# Altium integrated library RP2350.IntLib: 1 symbol
Pins are listed as number, name and electrical type; pins without a type are passive.

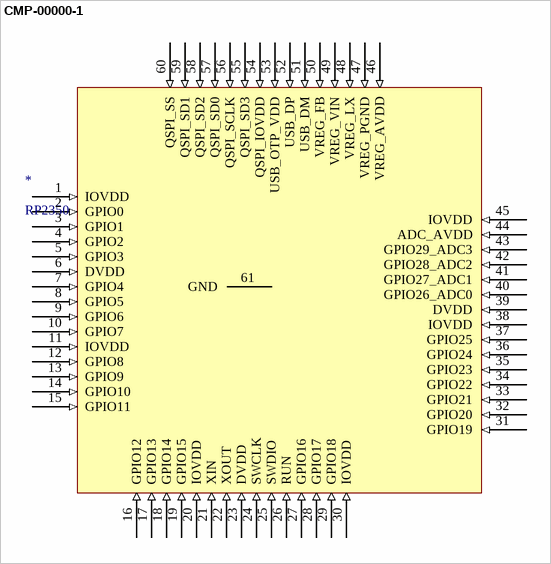
[diagram p0: symbol CMP-00000-1]

## CMP-00000-1
designator *, comment RP2350
RP2350 microcontroller chip in QFN-60 package.; Nominal Supply Voltage: 3.3V; Pins: 60; Case/Package: QFN-60
footprint RP2350 (RP2350, QFN-60 package)
pins: 1 IOVDD (in), 2 GPIO0 (in), 3 GPIO1 (in), 4 GPIO2 (in), 5 GPIO3 (in), 6 DVDD (in), 7 GPIO4 (in), 8 GPIO5 (in), 9 GPIO6 (in), 10 GPIO7 (in), 11 IOVDD (in), 12 GPIO8 (in), 13 GPIO9 (in), 14 GPIO10 (in), 15 GPIO11 (in), 16 GPIO12 (in), 17 GPIO13 (in), 18 GPIO14 (in), 19 GPIO15 (in), 20 IOVDD (in), 21 XIN (in), 22 XOUT (in), 23 DVDD (in), 24 SWCLK (in), 25 SWDIO (in), 26 RUN (in), 27 GPIO16 (in), 28 GPIO17 (in), 29 GPIO18 (in), 30 IOVDD (in), 31 GPIO19 (in), 32 GPIO20 (in), 33 GPIO21 (in), 34 GPIO22 (in), 35 GPIO23 (in), 36 GPIO24 (in), 37 GPIO25 (in), 38 IOVDD (in), 39 DVDD (in), 40 GPIO26_ADC0 (in), 41 GPIO27_ADC1 (in), 42 GPIO28_ADC2 (in), 43 GPIO29_ADC3 (in), 44 ADC_AVDD (in), 45 IOVDD (in), 46 VREG_AVDD (in), 47 VREG_PGND (in), 48 VREG_LX (in), 49 VREG_VIN (in), 50 VREG_FB (in), 51 USB_DM (in), 52 USB_DP (in), 53 USB_OTP_VDD (in), 54 QSPI_IOVDD (in), 55 QSPI_SD3 (in), 56 QSPI_SCLK (in), 57 QSPI_SD0 (in), 58 QSPI_SD2 (in), 59 QSPI_SD1 (in), 60 QSPI_SS (in), 61 GND